# Altium schematic symbol library Schlib1.SchLib: 41 symbols (part 2 of 2)
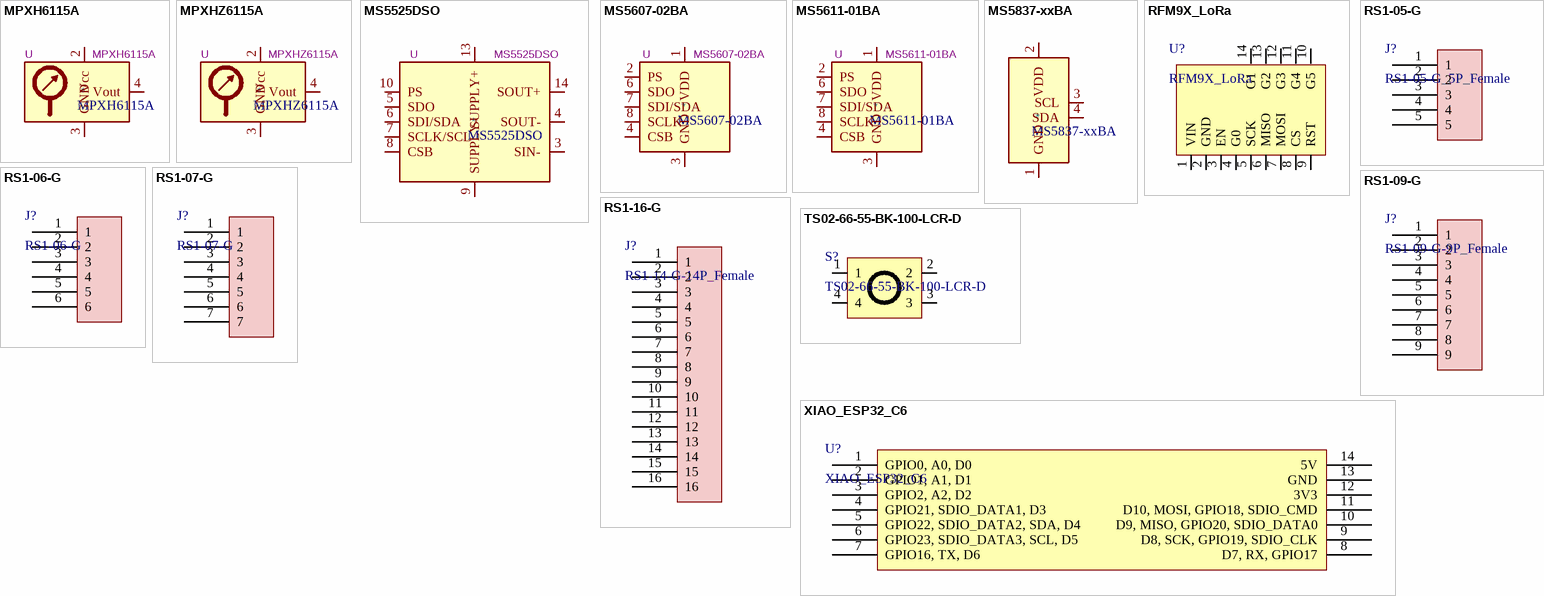
[diagram p2: symbols MPXH6115A to XIAO_ESP32_C6]

## RS1-05-G
designator J?, comment RS1-05-G_5P_Female
Connector, Receptacle Strip, 5 Position, 2.54MM Pitch, Single Row; Manufacturer: Adam Tech; Contact Resistance: 20mΩ; Current Rating: 3A; Insulation Resistance: 5GΩ; Supplier: DigiKey; Supplier Part Number: 2057-RS1-05-G-ND; Manufacturer Part Number: RS1-05-G; RoHS: Compliant; Category: Card Edge Connectors; Stock: 5746; Pricing: 1=0.31, 10=0.264, 100=0.2239, 500=0.19986, 3000=0.17609, 6000=0.16769, 12000=0.15968 (USD); Contact Gender: Female; Export Control Classification Number (ECCN) Code: EAR99; Harmonized Tariff Schedule (HTS) Code: 8536.69.40.40; Introduction Date: 2005-04-14; Lifecycle Status: Production; Max Operating Temperature: 105°C; Min Operating Temperature: -40°C; Pins: 5; Number of Rows: 1; Pitch: 2.54mm; REACH SVHC: Yes; Terminal Pitch: 2.54mm; Termination: PCB; ComponentLink1URL: https://datasheet.octopart.com:443/RS1-05-G-Adam-Tech-datasheet-65807175.pdf?src-supplier=IHS; ComponentLink1Description: https://datasheet.octopart.com:443/RS1-05-G-Adam-Tech-datasheet-65807175.pdf?src-supplier=IHS; ComponentLink2URL: http://sigma.octopart.com:80/reach_statement/Adam-Tech-company-23.pdf?src-supplier=Compliance+Statements; ComponentLink2Description: http://sigma.octopart.com:80/reach_statement/Adam-Tech-company-23.pdf?src-supplier=Compliance+Statements; ComponentLink3URL: http://sigma.octopart.com:80/rohs_statement/Adam-Tech-company-22.pdf?src-supplier=Compliance+Statements; ComponentLink3Description: http://sigma.octopart.com:80/rohs_statement/Adam-Tech-company-22.pdf?src-supplier=Compliance+Statements
pins: 1, 2, 3, 4, 5

## RS1-06-G
designator J?
Conn Socket Strip SKT 6 POS 2.54mm Solder ST Top Entry Thru-Hole T/R; Manufacturer: Adam Tech; Contact Resistance: 20mΩ; Current Rating: 3A; Insulation Resistance: 5GΩ; Number of Contacts: 6; Supplier: Future Electronics; Supplier Part Number: RS1-06-G; Manufacturer Part Number: RS1-06-G; RoHS: Compliant; Category: Card Edge Connectors; Stock: 61; Pricing: 110=0.2, 275=0.199, 1100=0.193, 2750=0.19, 6875=0.184 (USD); Contact Gender: Female; Contact Material: Gold, Nickel; Export Control Classification Number (ECCN) Code: EAR99; Height: 8.89mm; Harmonized Tariff Schedule (HTS) Code: 8536.69.40.40; Introduction Date: 2005-04-14; Lead Free: Lead Free; Lifecycle Status: Production; Max Operating Temperature: 105°C; Min Operating Temperature: -40°C; Pins: 6; Number of Rows: 1; REACH SVHC: Yes; Schedule B: 8536694040; Terminal Pitch: 2.54mm; ComponentLink1URL: https://datasheet.octopart.com:443/RS1-06-G-Adam-Tech-datasheet-65807175.pdf?src-supplier=IHS; ComponentLink1Description: https://datasheet.octopart.com:443/RS1-06-G-Adam-Tech-datasheet-65807175.pdf?src-supplier=IHS; ComponentLink2URL: https://datasheet.octopart.com:443/RS1-06-G-Adam-Tech-datasheet-12522412.pdf?src-supplier=Future+Electronics; ComponentLink2Description: https://datasheet.octopart.com:443/RS1-06-G-Adam-Tech-datasheet-12522412.pdf?src-supplier=Future+Electronics; ComponentLink3URL: http://sigma.octopart.com:80/reach_statement/Adam-Tech-company-23.pdf?src-supplier=Compliance+Statements; ComponentLink3Description: http://sigma.octopart.com:80/reach_statement/Adam-Tech-company-23.pdf?src-supplier=Compliance+Statements; ComponentLink4URL: http://sigma.octopart.com:80/rohs_statement/Adam-Tech-company-22.pdf?src-supplier=Compliance+Statements; ComponentLink4Description: http://sigma.octopart.com:80/rohs_statement/Adam-Tech-company-22.pdf?src-supplier=Compliance+Statements
pins: 1, 2, 3, 4, 5, 6

## RS1-07-G
designator J?
Connector, Receptacle Strip, 7 Position, 2.54MM Pitch, Single Row; Manufacturer: Adam Tech; Contact Resistance: 20mΩ; Current Rating: 3A; Insulation Resistance: 5GΩ; Supplier: DigiKey; Supplier Part Number: 2057-RS1-07-G-ND; Manufacturer Part Number: RS1-07-G; RoHS: Compliant; Category: Card Edge Connectors; Stock: 841; Pricing: 1=0.42, 10=0.359, 100=0.3046, 500=0.27182, 3200=0.23843, 6400=0.22705, 12800=0.21622 (USD); Contact Gender: Female; Export Control Classification Number (ECCN) Code: EAR99; Harmonized Tariff Schedule (HTS) Code: 8536.69.40.40; Introduction Date: 2005-04-14; Lifecycle Status: Production; Max Operating Temperature: 105°C; Min Operating Temperature: -40°C; Pins: 7; Number of Rows: 1; REACH SVHC: Yes; Terminal Pitch: 2.54mm; ComponentLink1URL: https://datasheet.octopart.com:443/RS1-07-G-Adam-Tech-datasheet-65807175.pdf?src-supplier=IHS; ComponentLink1Description: https://datasheet.octopart.com:443/RS1-07-G-Adam-Tech-datasheet-65807175.pdf?src-supplier=IHS; ComponentLink2URL: http://sigma.octopart.com:80/reach_statement/Adam-Tech-company-23.pdf?src-supplier=Compliance+Statements; ComponentLink2Description: http://sigma.octopart.com:80/reach_statement/Adam-Tech-company-23.pdf?src-supplier=Compliance+Statements; ComponentLink3URL: http://sigma.octopart.com:80/rohs_statement/Adam-Tech-company-22.pdf?src-supplier=Compliance+Statements; ComponentLink3Description: http://sigma.octopart.com:80/rohs_statement/Adam-Tech-company-22.pdf?src-supplier=Compliance+Statements
pins: 1, 2, 3, 4, 5, 6, 7

## RS1-09-G
designator J?, comment RS1-09-G-9P_Female
Connector, Receptacle Strip, 9 Position, 2.54MM Pitch, Single Row; Manufacturer: Adam Tech; Contact Resistance: 20mΩ; Current Rating: 3A; Insulation Resistance: 5GΩ; Supplier: DigiKey; Supplier Part Number: 2057-RS1-09-G-ND; Manufacturer Part Number: RS1-09-G; RoHS: Compliant; Category: Card Edge Connectors; Stock: 1265; Pricing: 1=0.49, 80=0.35963, 160=0.34244, 560=0.31345, 1040=0.30004, 5040=0.26841, 10000=0.25575 (USD); Contact Gender: Female; Export Control Classification Number (ECCN) Code: EAR99; Harmonized Tariff Schedule (HTS) Code: 8536.69.40.40; Introduction Date: 2005-04-14; Lifecycle Status: Production; Max Operating Temperature: 105°C; Min Operating Temperature: -40°C; Pins: 9; Number of Rows: 1; REACH SVHC: Yes; Terminal Pitch: 2.54mm; ComponentLink1URL: https://datasheet.octopart.com:443/RS1-09-G-Adam-Tech-datasheet-65807175.pdf?src-supplier=IHS; ComponentLink1Description: https://datasheet.octopart.com:443/RS1-09-G-Adam-Tech-datasheet-65807175.pdf?src-supplier=IHS; ComponentLink2URL: http://sigma.octopart.com:80/reach_statement/Adam-Tech-company-23.pdf?src-supplier=Compliance+Statements; ComponentLink2Description: http://sigma.octopart.com:80/reach_statement/Adam-Tech-company-23.pdf?src-supplier=Compliance+Statements; ComponentLink3URL: http://sigma.octopart.com:80/rohs_statement/Adam-Tech-company-22.pdf?src-supplier=Compliance+Statements; ComponentLink3Description: http://sigma.octopart.com:80/rohs_statement/Adam-Tech-company-22.pdf?src-supplier=Compliance+Statements
pins: 1, 2, 3, 4, 5, 6, 7, 8, 9

## RS1-16-G
designator J?, comment RS1-14-G-14P_Female
Connector, Receptacle Strip, 14 Position, 2.54MM Pitch, Single Row; Manufacturer: Adam Tech; Manufacturer Part Number: RS1-09-G; Contact Resistance: 20mΩ; Current Rating: 3A; Insulation Resistance: 5GΩ; Supplier: DigiKey; Supplier Part Number: 2057-RS1-09-G-ND; RoHS: Compliant; Category: Card Edge Connectors; Stock: 1265; Pricing: 1=0.49, 80=0.35963, 160=0.34244, 560=0.31345, 1040=0.30004, 5040=0.26841, 10000=0.25575 (USD); Contact Gender: Female; Export Control Classification Number (ECCN) Code: EAR99; Harmonized Tariff Schedule (HTS) Code: 8536.69.40.40; Introduction Date: 2005-04-14; Lifecycle Status: Production; Max Operating Temperature: 105°C; Min Operating Temperature: -40°C; Pins: 9; Number of Rows: 1; REACH SVHC: Yes; Terminal Pitch: 2.54mm; ComponentLink1URL: https://datasheet.octopart.com:443/RS1-09-G-Adam-Tech-datasheet-65807175.pdf?src-supplier=IHS; ComponentLink1Description: https://datasheet.octopart.com:443/RS1-09-G-Adam-Tech-datasheet-65807175.pdf?src-supplier=IHS; ComponentLink2URL: http://sigma.octopart.com:80/reach_statement/Adam-Tech-company-23.pdf?src-supplier=Compliance+Statements; ComponentLink2Description: http://sigma.octopart.com:80/reach_statement/Adam-Tech-company-23.pdf?src-supplier=Compliance+Statements; ComponentLink3URL: http://sigma.octopart.com:80/rohs_statement/Adam-Tech-company-22.pdf?src-supplier=Compliance+Statements; ComponentLink3Description: http://sigma.octopart.com:80/rohs_statement/Adam-Tech-company-22.pdf?src-supplier=Compliance+Statements
pins: 1, 2, 3, 4, 5, 6, 7, 8, 9, 10, 11, 12, 13, 14, 15, 16

## TS02-66-55-BK-100-LCR-D
designator S?
Switch Tactile OFF (ON) SPST Round Button PC Pins 0.05A 12VDC 100000Cycles 1N Thru-Hole Bag; Manufacturer: Same Sky; Contact Resistance: 100mΩ; Electrical Life: 100kcycles; Max Current Rating: 50mA; Max Voltage Rating (DC): 12V; Number of Positions: 1; Operating Force: 980mN; Supplier: DigiKey; Supplier Part Number: 2223-TS02-66-55-BK-100-LCR-D-ND; Manufacturer Part Number: TS02-66-55-BK-100-LCR-D; RoHS: Compliant; Category: Tactile Switches; Stock: 4018; Pricing: 1=0.11, 10=0.098, 25=0.0924, 100=0.0833, 250=0.0774, 500=0.07308, 1000=0.06896, 3000=0.06295, 5000=0.06041 (USD); Color: Black; Contact Plating: Silver; Export Control Classification Number (ECCN) Code: EAR99; Height: 3.5mm; Housing Material: Stainless Steel; Harmonized Tariff Schedule (HTS) Code: 8536.50.90.40; Insulation Resistance: 100MΩ; Introduction Date: 2021-10-07; Length: 6mm; Lifecycle Status: Production; Max Operating Temperature: 80°C; Min Operating Temperature: -30°C; REACH SVHC: Yes; Schedule B: 8536509030, 8536509065, 8536509065|8536509065, 8536509065|8536509065|8536509065; Terminal Material: Brass; Throw Configuration: SPST; ComponentLink1URL: https://datasheet.octopart.com:443/TS02-66-55-BK-100-LCR-D-Same-Sky-datasheet-183540777.pdf?src-supplier=Same+Sky; ComponentLink1Description: https://datasheet.octopart.com:443/TS02-66-55-BK-100-LCR-D-Same-Sky-datasheet-183540777.pdf?src-supplier=Same+Sky; ComponentLink2URL: https://datasheet.octopart.com:443/TS02-66-55-BK-100-LCR-D-Same-Sky-datasheet-181920466.pdf?src-supplier=Same+Sky; ComponentLink2Description: https://datasheet.octopart.com:443/TS02-66-55-BK-100-LCR-D-Same-Sky-datasheet-181920466.pdf?src-supplier=Same+Sky; ComponentLink3URL: https://datasheet.octopart.com:443/TS02-66-55-BK-100-LCR-D-Same-Sky-datasheet-181920465.pdf?src-supplier=Same+Sky; ComponentLink3Description: https://datasheet.octopart.com:443/TS02-66-55-BK-100-LCR-D-Same-Sky-datasheet-181920465.pdf?src-supplier=Same+Sky; ComponentLink4URL: https://datasheet.octopart.com:443/TS02-66-55-BK-100-LCR-D-CUI-Devices-datasheet-175928973.pdf?src-supplier=Same+Sky; ComponentLink4Description: https://datasheet.octopart.com:443/TS02-66-55-BK-100-LCR-D-CUI-Devices-datasheet-175928973.pdf?src-supplier=Same+Sky; ComponentLink5URL: https://datasheet.octopart.com:443/TS02-66-55-BK-100-LCR-D-CUI-Devices-datasheet-155929901.pdf?src-supplier=Same+Sky; ComponentLink5Description: https://datasheet.octopart.com:443/TS02-66-55-BK-100-LCR-D-CUI-Devices-datasheet-155929901.pdf?src-supplier=Same+Sky; ComponentLink6URL: https://datasheet.octopart.com:443/TS02-66-55-BK-100-LCR-D-CUI-Devices-datasheet-180438921.pdf?src-supplier=IHS; ComponentLink6Description: https://datasheet.octopart.com:443/TS02-66-55-BK-100-LCR-D-CUI-Devices-datasheet-180438921.pdf?src-supplier=IHS; ComponentLink7URL: https://datasheet.octopart.com:443/TS02-66-55-BK-100-LCR-D-Same-Sky-datasheet-192884239.pdf?src-supplier=Farnell; ComponentLink7Description: https://datasheet.octopart.com:443/TS02-66-55-BK-100-LCR-D-Same-Sky-datasheet-192884239.pdf?src-supplier=Farnell; ComponentLink8URL: https://datasheet.octopart.com:443/TS02-66-55-BK-100-LCR-D-Same-Sky-datasheet-182881588.pdf?src-supplier=Electro+Sonic; ComponentLink8Description: https://datasheet.octopart.com:443/TS02-66-55-BK-100-LCR-D-Same-Sky-datasheet-182881588.pdf?src-supplier=Electro+Sonic; ComponentLink9URL: https://datasheet.octopart.com:443/TS02-66-55-BK-100-LCR-D-Same-Sky-datasheet-189105763.pdf?src-supplier=Master+Electronics; ComponentLink9Description: https://datasheet.octopart.com:443/TS02-66-55-BK-100-LCR-D-Same-Sky-datasheet-189105763.pdf?src-supplier=Master+Electronics; ComponentLink10URL: https://datasheet.octopart.com:443/TS02-66-55-BK-100-LCR-D-Same-Sky-datasheet-188930957.pdf?src-supplier=TME; ComponentLink10Description: https://datasheet.octopart.com:443/TS02-66-55-BK-100-LCR-D-Same-Sky-datasheet-188930957.pdf?src-supplier=TME; ComponentLink11URL: https://octopart.com:443/opatz8j6/c1?t=OsniuKHIxL9eaTBNKFdmsngdbw6MfabXil4KJ5swV2Ol6SwHTbl3DtBshbTx_WjDJtfmbYFgBopMi8e_4EfEujrCRZkkImDpeSqwCkgMsDWzywFcqvkdfRE6i5nDJAdPo3NHL2kAbPl3Km36jQCVtG2LbZcPKjMZASa3gurvGypvOQ2PXpRslTybkNNKdlulmXRsPenlHsAoJ9UDohdkFhwYygl9PlDny3RCi9M1uZlEU0OHHNyMO7n3cv4R3WpjLcVkDxCFrI2_MmjbsxwjvJZiihq0K3HwcGB2UdclHrzu-x8wwC3CJuv5FbISYTtR3fwYpZVa4dkoGSvHFm9qgSbk2u_HZq074TibVvXQUrWZs1n-JzFjaPg&src-supplier=Compliance+Statements; ComponentLink11Description: https://octopart.com:443/opatz8j6/c1?t=OsniuKHIxL9eaTBNKFdmsngdbw6MfabXil4KJ5swV2Ol6SwHTbl3DtBshbTx_WjDJtfmbYFgBopMi8e_4EfEujrCRZkkImDpeSqwCkgMsDWzywFcqvkdfRE6i5nDJAdPo3NHL2kAbPl3Km36jQCVtG2LbZcPKjMZASa3gurvGypvOQ2PXpRslTybkNNKdlulmXRsPenlHsAoJ9UDohdkFhwYygl9PlDny3RCi9M1uZlEU0OHHNyMO7n3cv4R3WpjLcVkDxCFrI2_MmjbsxwjvJZiihq0K3HwcGB2UdclHrzu-x8wwC3CJuv5FbISYTtR3fwYpZVa4dkoGSvHFm9qgSbk2u_HZq074TibVvXQUrWZs1n-JzFjaPg&src-supplier=Compliance+Statements; ComponentLink12URL: https://octopart.com:443/opatz8j6/c1?t=JAh-5wnsDEFx0xwTAvLyG-kVzhXkoZ8KXl8Zn4v9obtJjaoVyYlA-HGTFHzOmHIjQYscAj70scO1cLgq90Ink22aiZ0sKJt2_I_X2gh4O10ZhMc_OjXRGmz_NwXoiXp5b30DQniv0BJv46rs4CXBinQ771hT3TTID1OLSnjMj5iiWVXos29f76iZ_GD_UvTafB4o7NyWugk8DYHE9Cuo0aXLG5ASz4RDD0lYrD4hqTxV3tUJU2Vfy6sjCB0T2aDYG3-s5fiG_EknPHN_pNh6sSrR-C_b9xeWeUOBvjq4BQl3D6DwgHnYlXXNd1wvimBGxHbwPCDcm9-nrYE4koDzMxRDJls2f1FC4w&src-supplier=Compliance+Statements; ComponentLink12Description: https://octopart.com:443/opatz8j6/c1?t=JAh-5wnsDEFx0xwTAvLyG-kVzhXkoZ8KXl8Zn4v9obtJjaoVyYlA-HGTFHzOmHIjQYscAj70scO1cLgq90Ink22aiZ0sKJt2_I_X2gh4O10ZhMc_OjXRGmz_NwXoiXp5b30DQniv0BJv46rs4CXBinQ771hT3TTID1OLSnjMj5iiWVXos29f76iZ_GD_UvTafB4o7NyWugk8DYHE9Cuo0aXLG5ASz4RDD0lYrD4hqTxV3tUJU2Vfy6sjCB0T2aDYG3-s5fiG_EknPHN_pNh6sSrR-C_b9xeWeUOBvjq4BQl3D6DwgHnYlXXNd1wvimBGxHbwPCDcm9-nrYE4koDzMxRDJls2f1FC4w&src-supplier=Compliance+Statements; ComponentLink13URL: https://octopart.com:443/opatz8j6/c1?t=hnav-g1km1ua1_avUmhOK0Kx74qI78k-2sHHIGrwQMLykihXQ6yIL3GYut8q30BKntENEfL2UcviuTm8VPXvNa5JCRNWIw94dFs9-CMEbO5yfsvmeRro6vdolX-GRU92RRig-2VN1Zr2Pywzi9CIydqYev4S_HXAtgcwxze6ryQQh_SFUJl3l1MB7yxMp0CVOTCJ-gEU-_zP8Dyzs7abjsxqz80gS2uhN5TQxC9yRyg6CZ-7Fvk0xINCc3IneAFDMNa88MXKOoFe-c898v8TlvNAVAwuYd-lvHguATrXrnXZNrvjEw9BMer5RZY6-8G-TMtVNK7k68JJxTFlUmvYOPzCgjL2Qi0A3hANb1_EbAcsTDUpmg&src-supplier=Compliance+Statements; ComponentLink13Description: https://octopart.com:443/opatz8j6/c1?t=hnav-g1km1ua1_avUmhOK0Kx74qI78k-2sHHIGrwQMLykihXQ6yIL3GYut8q30BKntENEfL2UcviuTm8VPXvNa5JCRNWIw94dFs9-CMEbO5yfsvmeRro6vdolX-GRU92RRig-2VN1Zr2Pywzi9CIydqYev4S_HXAtgcwxze6ryQQh_SFUJl3l1MB7yxMp0CVOTCJ-gEU-_zP8Dyzs7abjsxqz80gS2uhN5TQxC9yRyg6CZ-7Fvk0xINCc3IneAFDMNa88MXKOoFe-c898v8TlvNAVAwuYd-lvHguATrXrnXZNrvjEw9BMer5RZY6-8G-TMtVNK7k68JJxTFlUmvYOPzCgjL2Qi0A3hANb1_EbAcsTDUpmg&src-supplier=Compliance+Statements; ComponentLink14URL: https://octopart.com:443/opatz8j6/c1?t=bor8mHRCuwhyku8KaEo4LmOYgx_ywmGJ4w7TfaaEWZPBnxFXar9XIxBO_ABIv7nfRtm98LdRpBxYxKPoIyuE26GaWzQz6aNPoDyvi2niF9wAbHQvj8-k8ooqlarfmHagj8cRXg_t23bDsC77kf5uqSywYyBHpnlMVtQiKPnrhEInCDl3mhVBtPmzJ2TfFIJxbEwmvUkG7yrzv4eB4TtNipw_jKA_MY8WicTCIsWO_XmgeV0eJk_7Z0qkxp8g8F1sbdzNnZS6VXSiK85h7yvH0daqQS2ELMbH7rttzkurRp-ChBDsS7rgSlob-_-Ap-uCmRlBS187NKfS6Vq6JjePOGvuFHtGfqla6effgQkoaS5ZkxvVsUuUBnY&src-supplier=Compliance+Statements; ComponentLink14Description: https://octopart.com:443/opatz8j6/c1?t=bor8mHRCuwhyku8KaEo4LmOYgx_ywmGJ4w7TfaaEWZPBnxFXar9XIxBO_ABIv7nfRtm98LdRpBxYxKPoIyuE26GaWzQz6aNPoDyvi2niF9wAbHQvj8-k8ooqlarfmHagj8cRXg_t23bDsC77kf5uqSywYyBHpnlMVtQiKPnrhEInCDl3mhVBtPmzJ2TfFIJxbEwmvUkG7yrzv4eB4TtNipw_jKA_MY8WicTCIsWO_XmgeV0eJk_7Z0qkxp8g8F1sbdzNnZS6VXSiK85h7yvH0daqQS2ELMbH7rttzkurRp-ChBDsS7rgSlob-_-Ap-uCmRlBS187NKfS6Vq6JjePOGvuFHtGfqla6effgQkoaS5ZkxvVsUuUBnY&src-supplier=Compliance+Statements; ComponentLink15URL: https://octopart.com:443/opatz8j6/c1?t=XeQOmNgCsVq9IPQT7zcWQbu5jicqZOgWlkSJhhZ0sE4F8Wa6meX16TsfOQiwY-6AZTUIZzZwwdZ0tt9jOrrBagAGHiwBfDm-xM7OY4oi9kNpuPp2a6hXC5Cubtjr9nP3XX996vIUBBA7g7X4Of1AVdJIHUuY69Kbljc1ZW2aSb9odR_adRto3dby_dwzR1gc0A7r00k5hAhiJu6mYJMiOCPF8SY1ZxNSOl7PuRqXRuchXoY08mMOgtFoTwBEVrhyPMacz1oSj97iEITSbi_f2HcKiFGXdvVRWfoTp7ATTSQH-ZGbojhXRIX1VJtjBBtgMEwIfWWqWXjpYEHcISRter5YjIaJI9Zg2w&src-supplier=Compliance+Statements; ComponentLink15Description: https://octopart.com:443/opatz8j6/c1?t=XeQOmNgCsVq9IPQT7zcWQbu5jicqZOgWlkSJhhZ0sE4F8Wa6meX16TsfOQiwY-6AZTUIZzZwwdZ0tt9jOrrBagAGHiwBfDm-xM7OY4oi9kNpuPp2a6hXC5Cubtjr9nP3XX996vIUBBA7g7X4Of1AVdJIHUuY69Kbljc1ZW2aSb9odR_adRto3dby_dwzR1gc0A7r00k5hAhiJu6mYJMiOCPF8SY1ZxNSOl7PuRqXRuchXoY08mMOgtFoTwBEVrhyPMacz1oSj97iEITSbi_f2HcKiFGXdvVRWfoTp7ATTSQH-ZGbojhXRIX1VJtjBBtgMEwIfWWqWXjpYEHcISRter5YjIaJI9Zg2w&src-supplier=Compliance+Statements; ComponentLink16URL: https://octopart.com:443/opatz8j6/c1?t=9DeHlhxn3JPyLHfy3VWkIydLhlwabqFbNODhx6xtRJJGrAmqTDoZDsZ9X1C-iRq09zBgjbHMf9dWxuCVu81gGskX8p5QWBdDEmgeRI5L9uxdPh9kKj6DrIi6Zst1BNM3xhoD9Q61h4k2EzU7qwyEjxfNk-DrYCv50NV-Q1rXCMmtT2q1BSQzqt4X7aeLZJXE34XOX94Ssc8szaqGhhBxSGgAw7X_UqS8dN2vbcwrBWZOhaCzlfRuwKYP8zh21o8AZA8UFeFqa8BD88-hzGLW_I7qJZnDwS2pd9FFd94V23VdrHoULmY5sX9_Lo2K8mcQW3jOtXoHld3Tu274gNuCF89W7P9jl6MP7Kan4UgpwS33jy47nA&src-supplier=Compliance+Statements; ComponentLink16Description: https://octopart.com:443/opatz8j6/c1?t=9DeHlhxn3JPyLHfy3VWkIydLhlwabqFbNODhx6xtRJJGrAmqTDoZDsZ9X1C-iRq09zBgjbHMf9dWxuCVu81gGskX8p5QWBdDEmgeRI5L9uxdPh9kKj6DrIi6Zst1BNM3xhoD9Q61h4k2EzU7qwyEjxfNk-DrYCv50NV-Q1rXCMmtT2q1BSQzqt4X7aeLZJXE34XOX94Ssc8szaqGhhBxSGgAw7X_UqS8dN2vbcwrBWZOhaCzlfRuwKYP8zh21o8AZA8UFeFqa8BD88-hzGLW_I7qJZnDwS2pd9FFd94V23VdrHoULmY5sX9_Lo2K8mcQW3jOtXoHld3Tu274gNuCF89W7P9jl6MP7Kan4UgpwS33jy47nA&src-supplier=Compliance+Statements
pins: 1, 2 "MOSI2", 3, 4

## XIAO_ESP32_C6
designator U?
seeed studio FCC ID:Z4T-XIAOESP32C6
pins: 1 GPIO0, A0, D0, 2 GPIO1, A1, D1, 3 GPIO2, A2, D2, 4 GPIO21, SDIO_DATA1, D3, 5 GPIO22, SDIO_DATA2, SDA, D4, 6 GPIO23, SDIO_DATA3, SCL, D5, 7 GPIO16, TX, D6, 8 D7, RX, GPIO17, 9 D8, SCK, GPIO19, SDIO_CLK, 10 D9, MISO, GPIO20, SDIO_DATA0, 11 D10, MOSI, GPIO18, SDIO_CMD, 12 3V3, 13 GND, 14 5V